# Altium schematic symbol library Additional.SchLib: 1 symbol
Pins are listed as number, name and electrical type; pins without a type are passive.

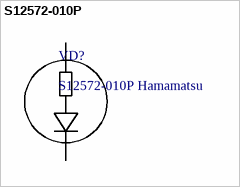
[diagram p0: symbol S12572-010P]

## S12572-010P
designator VD?, comment S12572-010P Hamamatsu
Name: S12572-010P; Manufacturer: Hamamatsu
footprint S12572-010P
pins: 1 A, 2 C